# EAGLE library part J1006 (library con-pulse-j1006)
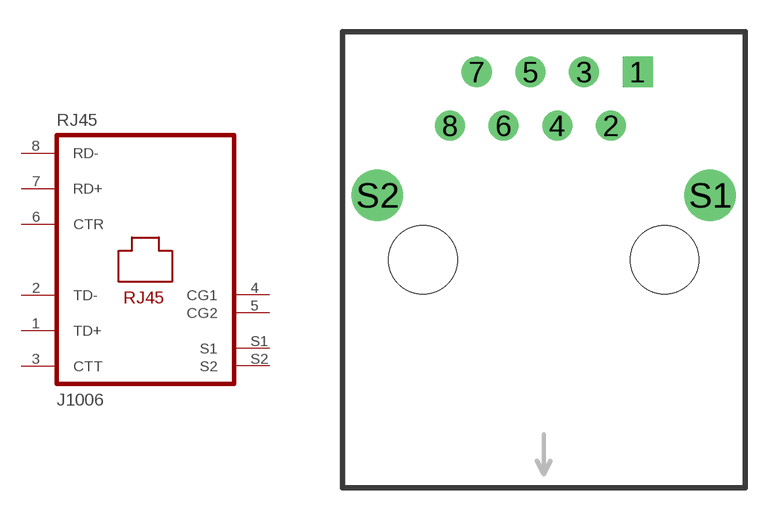
[diagram p1: symbol with the pads of PJ-J1; footprint PJ-J1]

Designator prefix RJ45

## J1006  [PJ-J1]
1  TD+
2  TD-
3  CTT
4  CG1  pas
5  CG2  pas
6  CTR
7  RD+
8  RD-
S1  S1  pas
S2  S2  pas

## Footprint PJ-J1 (pad centres in mm)
drill 0.914 square: 1 4.445,8.89
drill 0.914 round: 2 3.175,6.35; 3 1.905,8.89; 4 0.635,6.35; 5 -0.635,8.89; 6 -1.905,6.35; 7 -3.175,8.89; 8 -4.445,6.35
drill 1.626 round: S1 7.874,3.048; S2 -7.874,3.048
hole 3.251 at 5.715,0
hole 3.251 at -5.715,0